# Altium footprint library Ale.PcbLib: 181 footprints (part 2 of 12)
Each footprint in its own frame and in the unit in brackets; x right, y up, seen from the top. Pads: shape width x height; smd on the part's side, far side on the other; paste and mask are expansions set on the pad; w line width, h text height; cw(c..) or ccw(c..) is an arc to the next point about the centre after c.
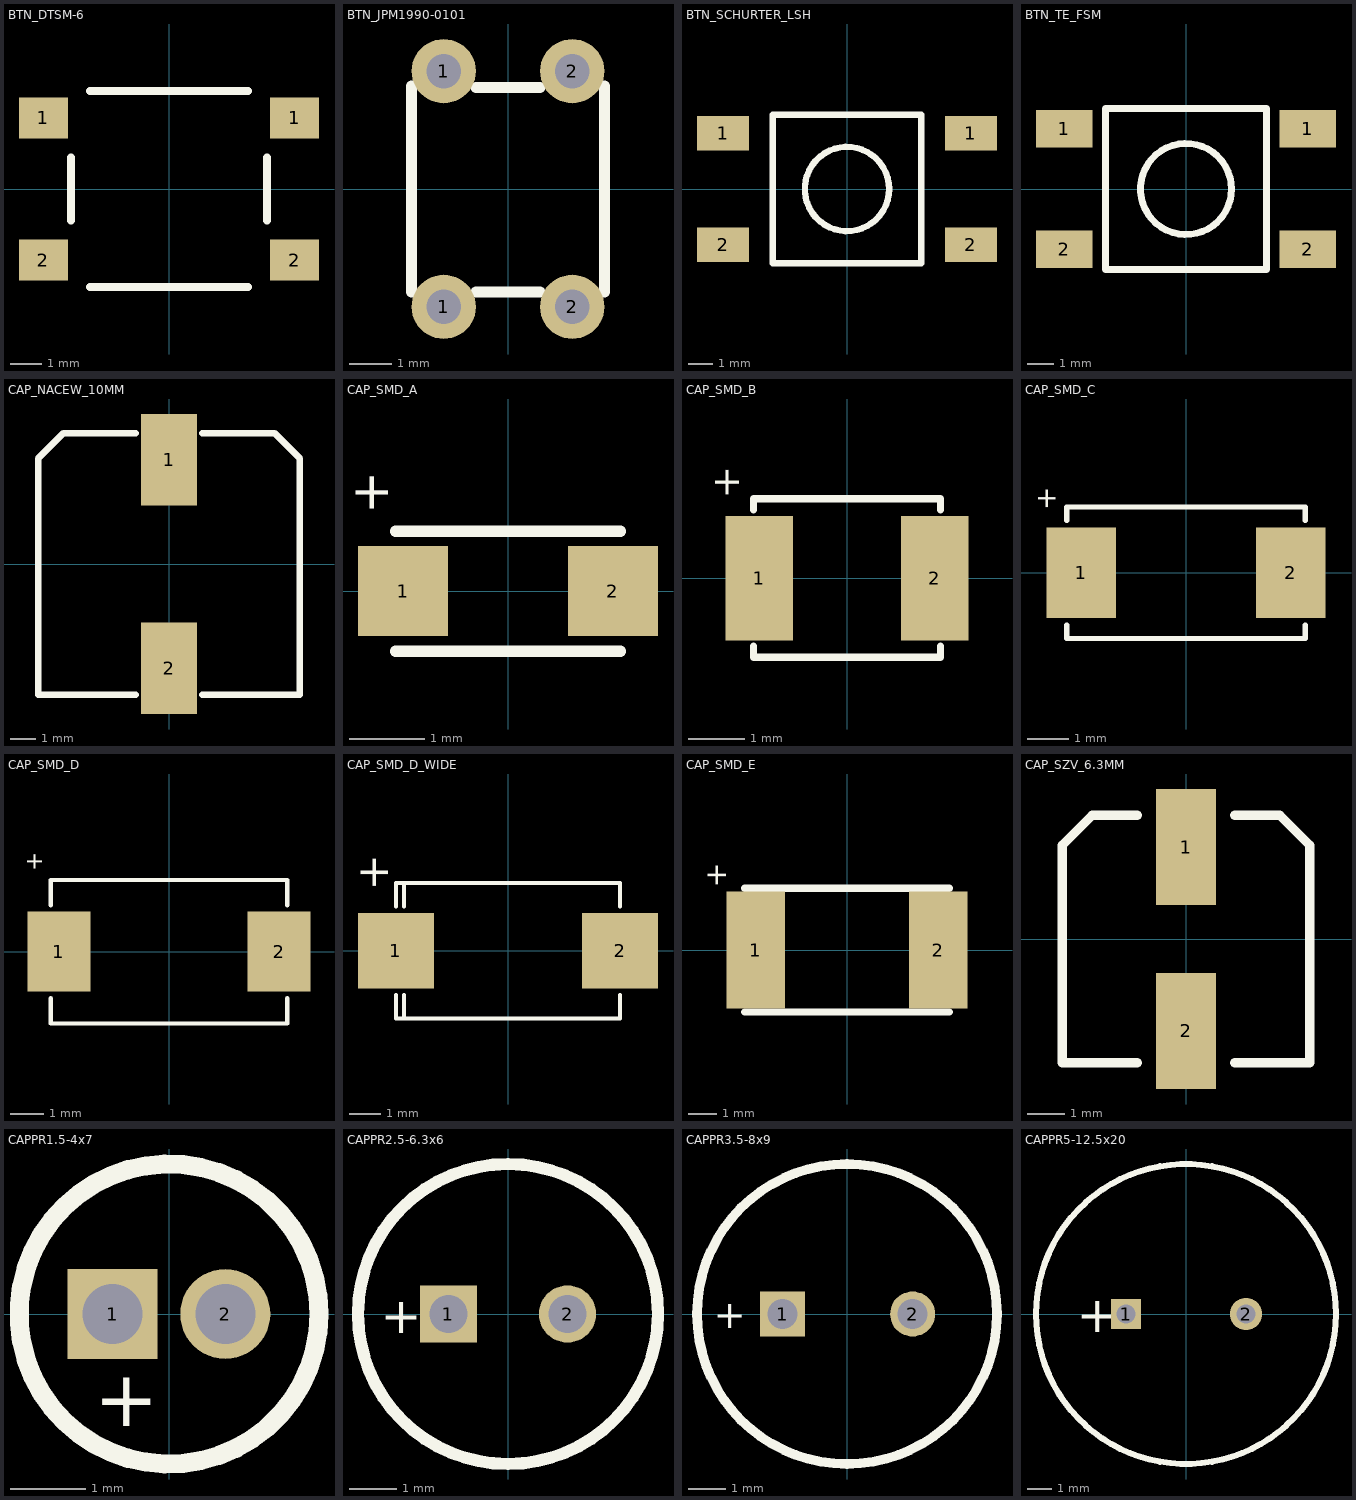
[diagram p1: the footprints below, top view; thin cyan lines are the x and y axes]

## BTN_DTSM-6 [mm] "Diptronics DTSM-6 pushbutton series"
height 5
pads (4):
  rect 1.55x1.3 smd: 1(-3.975,2.25) 1(3.975,2.25) 2(-3.975,-2.25) 2(3.975,-2.25)
Top Overlay:
  lines w0.254: -3.1,-1 -3.1,1 ; -2.5,-3.1 2.5,-3.1 ; -2.5,3.1 2.5,3.1 ; 3.1,-1 3.1,1
3D body: height 5, standoff 0, extent -3.099,-3.099 3.099,3.099

## BTN_JPM1990-0101 [mm] "JPM 1990-0101 push button"
height 5.5
pads (4):
  round 1.5 hole 0.8: 1(-1.5,-2.75) 1(-1.5,2.75) 2(1.5,-2.75) 2(1.5,2.75)
Top Overlay:
  lines w0.254: -2.25,2.4 -2.25,-2.4 ; -0.75,-2.4 0.75,-2.4 ; -0.75,2.369 0.75,2.369 ; 2.25,-2.4 2.25,2.4 ; -2.25,-2.4 -2.25,-2.4 ; 2.25,2.4 2.25,2.4
3D body: height 3.9, standoff 2.8, extent -1.209,-1.209 1.209,1.209
3D body: height 2.8, standoff 0, extent -2.249,-2.399 2.249,2.399

## BTN_SCHURTER_LSH [mm] "Schurter LSH series push buttons"
height 5
pads (4):
  rect 2.1x1.4 smd: 1(-5,2.25) 1(5,2.25) 2(-5,-2.25) 2(5,-2.25)
Top Overlay:
  circle w0.254: c0,0 r1.7
  lines w0.254: -3,-3 -3,3 3,3 3,-3 -3,-3
3D body: height 3.6, standoff 0, extent -2.999,-2.999 2.999,2.999
3D body: height 5, standoff 3.6, extent -1.699,-1.699 1.699,1.699

## BTN_TE_FSM [mm] "TE Connectivity FSM/JSM series Push Button"
height 3.5
pads (4):
  rect 2.1x1.4 smd: 1(-4.55,2.25) 1(4.55,2.25) 2(-4.55,-2.25) 2(4.55,-2.25)
Top Overlay:
  circle w0.254: c0,0 r1.7
  lines w0.254: -3,-3 3,-3 3,3 -3,3 -3,-3
3D body: height 5, standoff 3.6, extent -1.699,-1.699 1.699,1.699
3D body: height 3.6, standoff 0, extent -2.999,-2.999 2.999,2.999

## CAP_NACEW_10MM [mm] "NIC Components NACEW series capacitor, diameter 10 mm"
height 10.5
pads (2):
  rect 2.2x3.6 smd: 1(0,4.1) 2(0,-4.1)
Top Overlay:
  lines w0.254: -1.3,-5.15 -5.15,-5.15 -5.15,4.15 -4.15,5.15 -1.3,5.15 ; 1.3,-5.15 5.15,-5.15 5.15,4.15 4.15,5.15 1.3,5.15

## CAP_SMD_A [mm] "SMD Capacitor, A"
height 1.6
pads (2):
  rect 1.2x1.2 smd: 1(-1.4,0) 2(1.4,0)
Top Overlay:
  lines w0.15: -1.5,-0.8 1.5,-0.8 ; -1.5,0.8 1.5,0.8
  text "+" at -1.6,1.025 h0.5
3D body: height 1.6, standoff 0, extent -1.563,-0.864 1.563,0.864

## CAP_SMD_B [mm] "SMD Capacitor, B"
height 1.9
pads (2):
  rect 1.2x2.2 smd: 1(-1.55,0) 2(1.55,0)
Top Overlay:
  lines w0.127: -1.65,-1.2 -1.65,-1.4 1.65,-1.4 1.65,-1.2 ; -1.65,1.2 -1.65,1.4 1.65,1.4 1.65,1.2
  text "+" at -1.905,1.397 h0.5
3D body: height 1.9, standoff 0, extent -1.651,-1.397 1.651,1.397

## CAP_SMD_C [mm] "SMD Capacitor, C"
height 2.5
pads (2):
  rect 1.7x2.2 smd: 1(-2.55,0) 2(2.55,0)
Top Overlay:
  lines w0.127: -2.9,-1.27 -2.9,-1.6 2.9,-1.6 2.9,-1.27 ; -2.9,1.27 -2.9,1.6 2.9,1.6 2.9,1.27
  text "+" at -3.175,1.524 h0.5
3D body: height 2.5, standoff 0, extent -2.963,-1.663 2.963,1.663

## CAP_SMD_D [mm] "SMD Capacitor, D"
height 2.8
pads (2):
  rect 1.9x2.4 smd: 1(-3.3,0) 2(3.3,0)
Top Overlay:
  lines w0.127: -3.55,-1.397 -3.55,-2.15 3.55,-2.15 3.55,-1.397 ; -3.55,1.397 -3.55,2.15 3.55,2.15 3.55,1.397
  text "+" at -3.81,2.413 h0.5
3D body: height 2.8, standoff 0, extent -3.556,-2.159 3.556,2.159

## CAP_SMD_D_WIDE [mm] "SMD Capacitor, D, easier to solder"
height 2.8
pads (2):
  rect 2.4x2.4 smd: 1(-3.55,0) 2(3.55,0)
Top Overlay:
  lines w0.127: -3.55,-1.397 -3.55,-2.15 3.55,-2.15 3.55,-1.397 ; -3.55,1.397 -3.55,2.15 3.55,2.15 3.55,1.397 ; -3.3,-2.15 -3.3,-1.397 ; -3.3,1.397 -3.3,2.15
  text "+" at -3.8,1.9 h1
3D body: height 2.8, standoff 0, extent -3.556,-2.159 3.556,2.159

## CAP_SMD_E [mil] "SMD capacitor, E"
height 161.42
pads (2):
  rect 80x160 smd: 1(-125,0) 2(125,0)
Top Overlay:
  lines w10: -139.76,-84.65 139.76,-84.65 ; -139.76,84.65 139.76,84.65
  text "+" at -165,85 h30

## CAP_SZV_6.3MM [mm] "Rubycon SZV series capacitor, diameter 6.3 mm"
height 5.5
pads (2):
  rect 1.6x3.1 smd: 1(0,2.45) 2(0,-2.45)
Top Overlay:
  lines w0.254: -1.3,-3.3 -3.3,-3.3 -3.3,2.5 -2.5,3.3 -1.3,3.3 ; 1.3,-3.3 3.3,-3.3 3.3,2.5 2.5,3.3 1.3,3.3

## CAPPR1.5-4x7 [mm] "Capacitor, Electrolytic, Radial; Body 4 x 7 mm (Dia.xH typ); Pin Spacing 1.5 mm (typ)"
height 7
pads (2):
  rect 1.2x1.2 hole 0.8: 1(-0.75,0)
  round 1.2 hole 0.8: 2(0.75,0)
Top Overlay:
  circle w0.254: c0,0 r2
  text "+" at -1,-1.5 h0.75
3D body: height 7, standoff 0, extent -1.999,-1.999 1.999,1.999

## CAPPR2.5-6.3x6 [mm] "Capacitor, Electrolytic, Radial; Body 6.3 x 6 mm (Dia.xH typ); Pin Spacing 2.5 mm (typ)"
height 6
pads (2):
  rect 1.2x1.2 hole 0.8: 1(-1.25,0)
  round 1.2 hole 0.8: 2(1.25,0)
Top Overlay:
  circle w0.254: c0,0 r3.15
  text "+" at -2.675,-0.4 h0.75
3D body: height 6, standoff 0, extent -3.149,-3.149 3.149,3.149

## CAPPR3.5-8x9 [mm] "Capacitor, Electrolytic, Radial; Body 8 x 9 mm (Dia.xH typ); Pin Spacing 3.5 mm (typ)"
height 9
pads (2):
  rect 1.2x1.2 hole 0.8: 1(-1.72,0)
  round 1.2 hole 0.8: 2(1.75,0)
Top Overlay:
  circle w0.254: c0,0 r4
  text "+" at -3.55,-0.375 h0.75
3D body: height 9, standoff 0, extent -3.999,-3.999 3.999,3.999

## CAPPR5-12.5x20 [mm] "Capacitor, Electrolytic, Radial; Body 12.5 x 20 mm (Dia.xH typ); Pin Spacing 5 mm (typ)"
height 20
pads (2):
  rect 1.25x1.25 hole 0.8: 1(-2.5,0)
  round 1.35 hole 0.8: 2(2.5,0)
Top Overlay:
  circle w0.254: c0,0 r6.25
  text "+" at -4.55,-0.75 h1.5
3D body: height 20, standoff 0, extent -6.249,-6.249 6.249,6.249